# EAGLE library part 26_PIN_CONNECTOR (library Connectors)
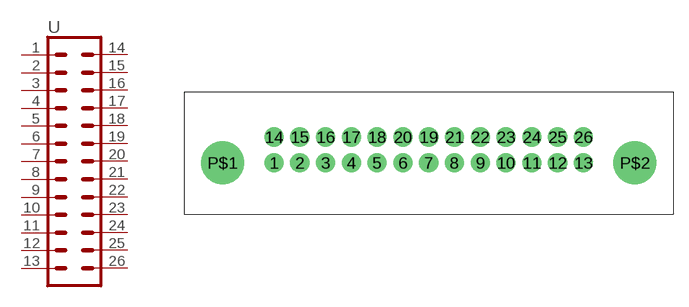
[diagram p6: symbol with the pads of 185904-2; footprint 185904-2]

Designator prefix -

## 26_PIN_CONNECTOR  [185904-2]
1  1  pas
2  2  pas
3  3  pas
4  4  pas
5  5  pas
6  6  pas
7  7  pas
8  8  pas
9  9  pas
10  10  pas
11  11  pas
12  12  pas
13  13  pas
14  14  pas
15  15  pas
16  16  pas
17  17  pas
18  18  pas
19  19  pas
20  20  pas
21  21  pas
22  22  pas
23  23  pas
24  24  pas
25  25  pas
26  26  pas

## Footprint 185904-2 (pad centres in mm)
26 Pin PTH
drill 1.016 pad 1.88: 1 -15.24,0; 2 -12.7,0; 3 -10.16,0; 4 -7.62,0; 5 -5.08,0; 6 -2.54,0; 7 0,0; 8 2.54,0; 9 5.08,0; 10 7.62,0; 11 10.16,0; 12 12.7,0; 13 15.24,0; 14 -15.24,2.54; 15 -12.7,2.54; 16 -10.16,2.54; 17 -7.62,2.54; 18 -5.08,2.54; 19 0,2.54; 20 -2.54,2.54; 21 2.54,2.54; 22 5.08,2.54; 23 7.62,2.54; 24 10.16,2.54; 25 12.7,2.54; 26 15.24,2.54
drill 3.2: P$1 -20.32,0; P$2 20.32,0